# Altium schematic symbol library Summits7Beta_LIB_Conectores_Sch.SchLib: 4 symbols
Pins are listed as number, name and electrical type; pins without a type are passive.

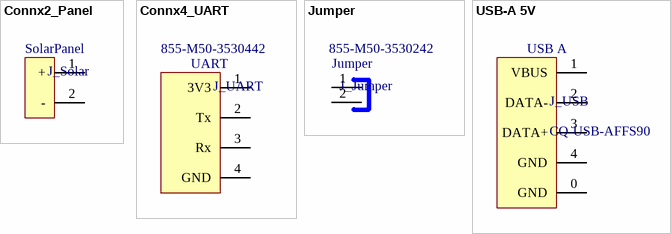
[diagram p0: symbols Connx2_Panel to USB-A 5V]

## Connx2_Panel
designator J_Solar
2.54mm Pin Header 2x1
footprint PANEL_IN (Footprint Entrada del Panel Solar)
pins: 1 + "+ Positive", 2 - "- Negative"
text: SolarPanel

## Connx4_UART
designator J_UART, comment Supplier Part Number 1: 855-M50-3530442  (hidden comment: M50-3530442)
1.27mm Pin Header 4x1; Supplier 1: Mouser
footprint UART-1.27mm (Socket UART)
pins: 1 3V3 "Vcc +3.3V", 2 Tx "Transmisión", 3 Rx "+ Positive", 4 GND
text: UART

## Jumper
designator J_Jumper, comment Supplier Part Number 1: 855-M50-3530242  (hidden comment: M50-3530242)
1.27mm Pin Header 2x1; Supplier 1: Mouser
footprint JUMPER-1.27 mm (Footprint Jumper)
pins: 1 "+ Positive", 2 "- Negative"

## USB-A 5V
designator J_USB, comment CQ-USB-AFFS90
Conector del USB   --   CQ-USB-AFFS90
footprint USB-A__IPX8 (Footprint del USB tipo A)
pins: 0 GND, 1 VBUS (power) "Vcc +3.3V", 2 DATA- "Transmisión", 3 DATA+ "+ Positive", 4 GND
text: USB A